# EAGLE library part AE4569H-1800 (library saw-filters-narrowband)
AE4569H-1800 Параметр Ед. изм. Мин. значение Тип. значение Макс. значение Центральная частота МГц 1799 1800 1801 Минимальное вносимое затухание дБ - 9.5 11 Полоса среза по уровню -1 дБ МГц 9.8 10 11 Полоса среза по уровню -30 дБ МГц - 58.5 - Неравномерность АЧХ дБ - 0.9 1.8 Групповое время задержки нс - - - Гарантированное затухание дБ - 45 - Температурный диапазон °C -55 22 +85 Материал подложки - - Танталат лития 36 -
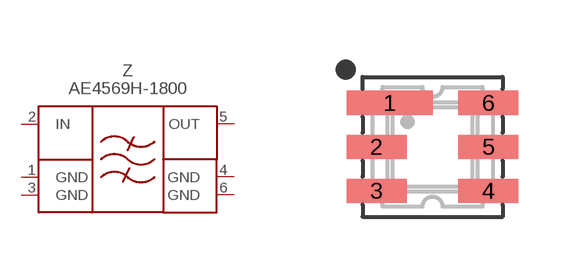
[diagram p0: symbol with the pads of DCC6; footprint DCC6]

Designator prefix Z

## AE4569H-1800  [DCC6]
1  GND  pwr
2  IN  in
3  GND  pwr
4  GND  pwr
5  OUT  out
6  GND  pwr

## Footprint DCC6 (pad centres in mm)
smd 2.15 x 0.6: 1 -1.075,1.1
smd 1.5 x 0.6: 2 -1.4,0; 3 -1.4,-1.1; 4 1.4,-1.1; 5 1.4,0; 6 1.4,1.1